# EAGLE library part 74HCT164N (library NXP_By_element14_Batch_1)
8-bit serial-in, parallel-out shift register
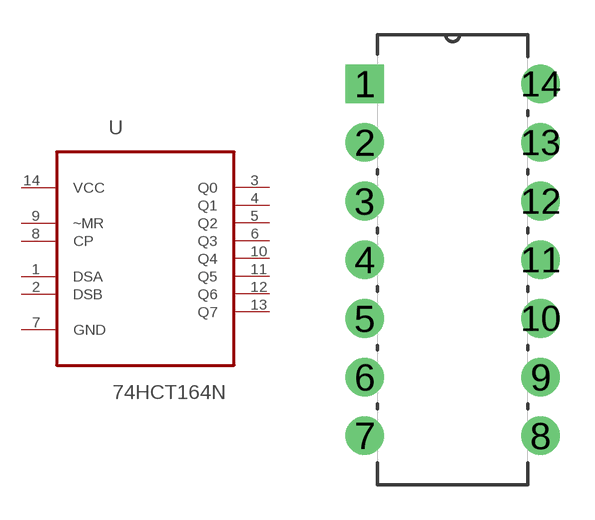
[diagram p182: symbol with the pads of DIP254P762X420-14; footprint DIP254P762X420-14]

Designator prefix U

## 74HCT164N (MPN: 74HCT164N; OC_FARNELL: 1201282; OC_NEWARK: SC09315; P1I: o; PACKAGE: DIP-14; SUPPLIER: NXP Semiconductors)  [DIP254P762X420-14]
1  DSA  in
2  DSB  in
3  Q0  out
4  Q1  out
5  Q2  out
6  Q3  out
7  GND  pas
8  CP  in
9  ~MR  in
10  Q4  out
11  Q5  out
12  Q6  out
13  Q7  out
14  VCC  pwr

## Footprint DIP254P762X420-14 (pad centres in mm)
drill 1.118 square: 1 -7.62,15.24
drill 1.118: 2 -7.62,12.7; 3 -7.62,10.16; 4 -7.62,7.62; 5 -7.62,5.08; 6 -7.62,2.54; 7 -7.62,0; 8 0,0; 9 0,2.54; 10 0,5.08; 11 0,7.62; 12 0,10.16; 13 0,12.7; 14 0,15.24